# Altium footprint library SMD Magnetics.PcbLib: 48 footprints (part 3 of 3)
Each footprint in its own frame and in the unit in brackets; x right, y up, seen from the top. Pads: shape width x height; smd on the part's side, far side on the other; paste and mask are expansions set on the pad; w line width, h text height; cw(c..) or ccw(c..) is an arc to the next point about the centre after c.
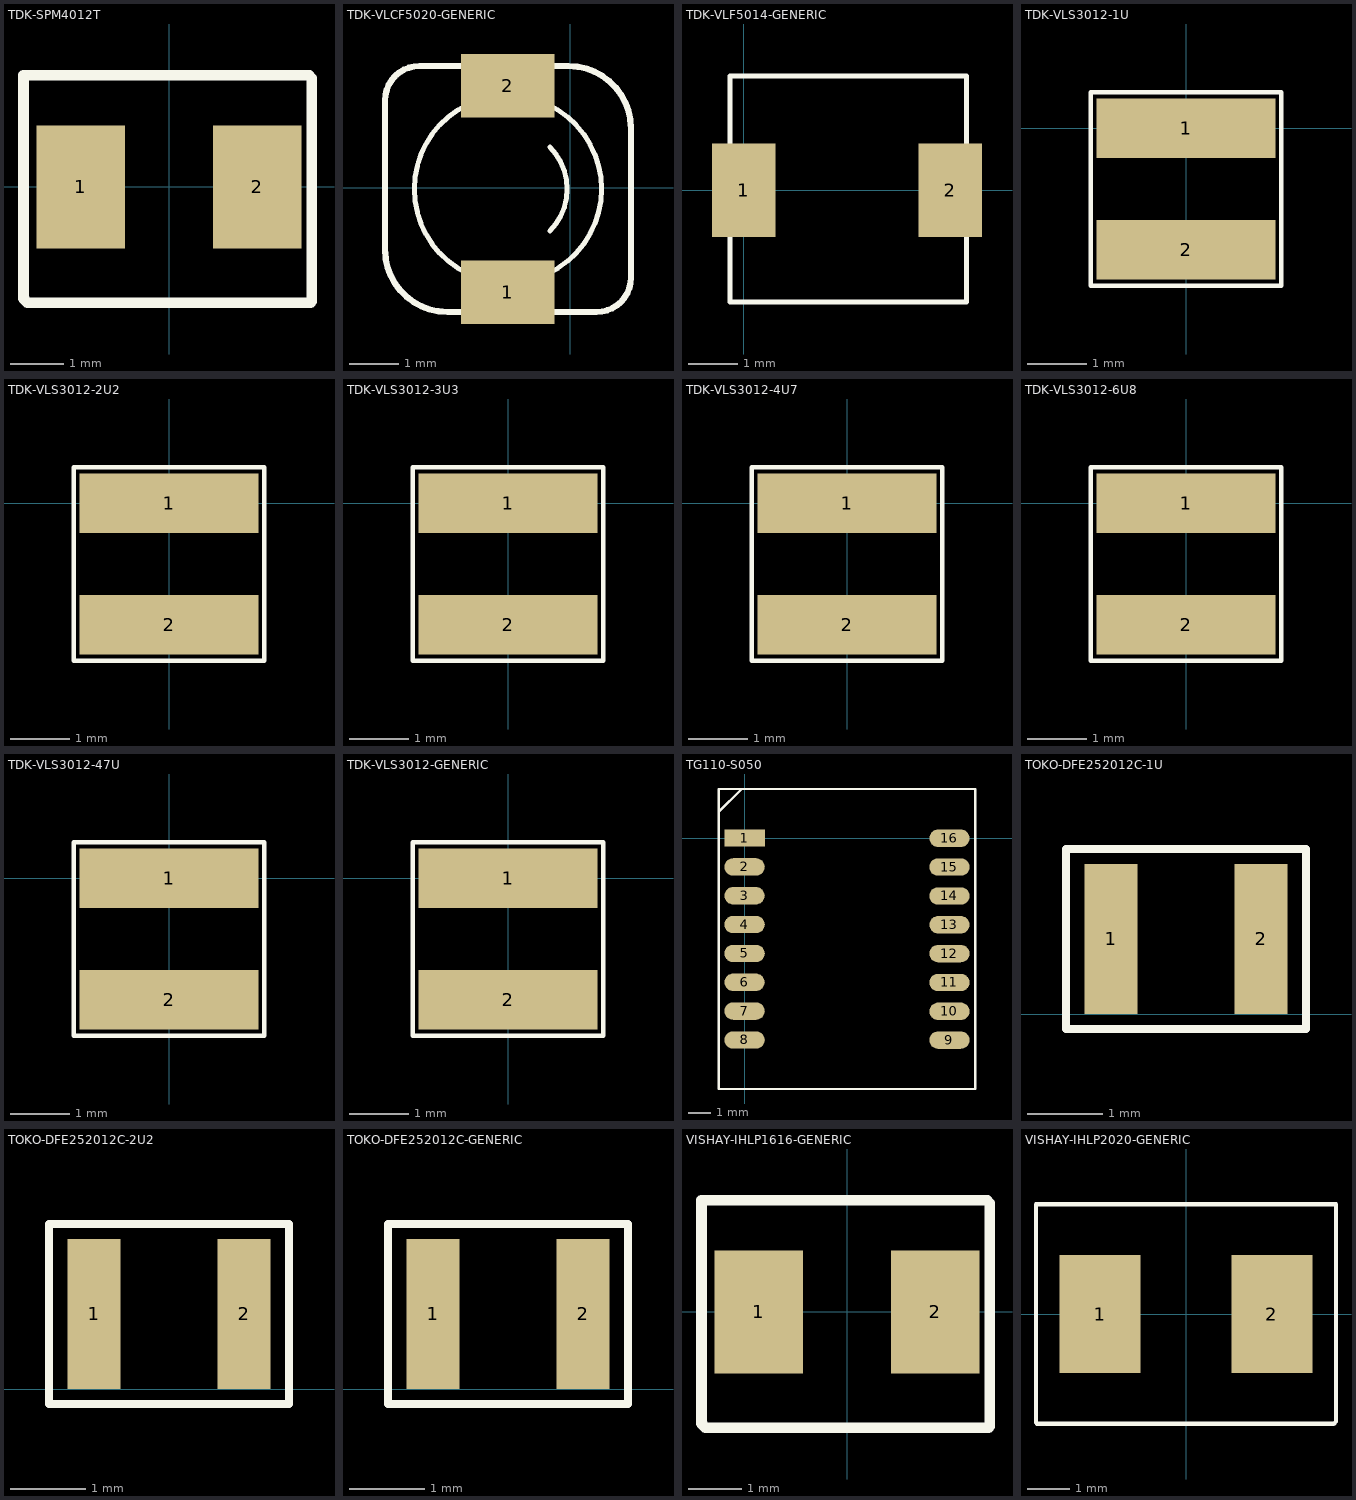
[diagram p2: the footprints below, top view; thin cyan lines are the x and y axes]

## TDK-SPM4012T [mm]
pads (2):
  rect 1.65x2.3 smd: 1(-1.651,0) 2(1.65,0)
Top Overlay:
  lines w0.198: -2.718,-2.083 -2.718,2.083 -2.54,2.083 2.616,2.083 2.667,2.032 2.667,-2.134 2.642,-2.159 -2.642,-2.159 -2.718,-2.083
3D body: height 1.07, standoff 0, extent -2.3,-1.2 -1.6,1.1
3D body: height 1.07, standoff 0, extent 1.6,-1.2 2.3,1.1
3D body: height 1.25, standoff 0.03, extent -2.2,-2.1 2.2,2

## TDK-VLCF5020-GENERIC [mm]
pads (2):
  rect 1.9x1.3 smd: 1(-1.275,-2.124) 2(-1.278,2.074)
Top Overlay:
  circle w0.102: c-1.272,-0.026 r1.903
  lines w0.102: -0.42,-0.878 ccw(c-1.272,-0.026) -0.42,0.825
  lines w0.127: -3.77,-1.255 ccw(c-2.5,-1.255) -2.5,-2.525 0.53,-2.525 ccw(c0.53,-1.825) 1.23,-1.825 1.23,1.205 ccw(c-0.04,1.205) -0.04,2.475 -3.07,2.475 ccw(c-3.07,1.775) -3.77,1.775 -3.77,-1.255
3D body: height 1.63, standoff 0.25, extent -3.133,-1.889 0.58,1.838
3D body: height 1.55, standoff 1.52, extent 0.314,-2.163 0.702,-1.774
3D body: height 0.64, standoff 0, extent -3.277,-2.07 0.787,2.032
3D body: height 1.52, standoff 0, extent -3.77,-2.538 1.243,2.488

## TDK-VLF5014-GENERIC [mm]
pads (2):
  rect 1.3x1.9 smd: 1(0,0) 2(4.199,0.003)
Top Overlay:
  lines w0.102: -0.276,-2.275 -0.276,2.325 4.524,2.325 4.524,-2.275 -0.276,-2.275
3D body: height 1, standoff 0, extent -0.276,-1.275 0.724,1.125
3D body: height 1, standoff 0, extent 3.524,-1.075 4.524,1.325
3D body: height 1.2, standoff 0, extent 1.024,-2.275 4.424,1.125
3D body: height 1.1, standoff 0, extent -0.176,-1.075 3.224,2.325
3D body: height 1.4, standoff 0, extent 0.339,-1.771 3.924,1.822
3D body: height 1.3, standoff 0, extent 0.239,-1.867 4.024,1.925
3D body: height 1.2, standoff 0, extent -0.152,0.813 3.226,2.311

## TDK-VLS3012-1U [mm]
pads (2):
  rect 3x1 smd: 1(0,0) 2(0,-2.032)
Top Overlay:
  lines w0.076: -1.6,-2.642 1.6,-2.642 1.6,0.61 -1.041,0.61 -1.6,0.61 -1.6,-2.642
3D body: height 1.3, standoff 1.27, extent 0.114,-1.206 0.305,-0.826
3D body: height 1.3, standoff 1.27, extent -0.146,-1.206 0.044,-0.826
3D body: height 0.13, standoff 0, extent -1.384,-2.299 1.435,-1.918
3D body: height 0.13, standoff 0, extent -1.384,-0.114 1.435,0.267
3D body: height 1.27, standoff 0, extent -0.851,-1.867 0.889,-0.191
3D body: height 1.27, standoff 0.89, extent -1.46,-2.286 1.46,0.254
3D body: height 0.38, standoff 0.03, extent -1.46,-2.286 1.46,0.254

## TDK-VLS3012-2U2 [mm]
pads (2):
  rect 3x1 smd: 1(0,0) 2(0,-2.032)
Top Overlay:
  lines w0.076: -1.6,-2.642 1.6,-2.642 1.6,0.61 -1.041,0.61 -1.6,0.61 -1.6,-2.642
3D body: height 1.3, standoff 1.27, extent -0.013,-1.194 0.178,-0.813
3D body: height 1.3, standoff 1.27, extent -0.279,-1.194 -0.089,-0.813
3D body: height 0.13, standoff 0, extent -1.384,-2.299 1.435,-1.918
3D body: height 0.13, standoff 0, extent -1.384,-0.114 1.435,0.267
3D body: height 1.27, standoff 0, extent -0.851,-1.867 0.889,-0.191
3D body: height 1.27, standoff 0.89, extent -1.46,-2.286 1.46,0.254
3D body: height 0.38, standoff 0.03, extent -1.46,-2.286 1.46,0.254
3D body: height 1.3, standoff 1.27, extent 0.267,-1.194 0.457,-0.813

## TDK-VLS3012-3U3 [mm]
pads (2):
  rect 3x1 smd: 1(0,0) 2(0,-2.032)
Top Overlay:
  lines w0.076: -1.6,-2.642 1.6,-2.642 1.6,0.61 -1.041,0.61 -1.6,0.61 -1.6,-2.642
3D body: height 1.3, standoff 1.27, extent 0.267,-1.194 0.457,-0.813
3D body: height 1.3, standoff 1.27, extent -0.013,-1.194 0.178,-0.813
3D body: height 0.13, standoff 0, extent -1.384,-2.299 1.435,-1.918
3D body: height 0.13, standoff 0, extent -1.384,-0.114 1.435,0.267
3D body: height 1.27, standoff 0, extent -0.851,-1.867 0.889,-0.191
3D body: height 1.27, standoff 0.89, extent -1.46,-2.286 1.46,0.254
3D body: height 0.38, standoff 0.03, extent -1.46,-2.286 1.46,0.254
3D body: height 1.3, standoff 1.27, extent -0.279,-1.194 -0.089,-0.813

## TDK-VLS3012-4U7 [mm]
pads (2):
  rect 3x1 smd: 1(0,0) 2(0,-2.032)
Top Overlay:
  lines w0.076: -1.6,-2.642 -1.6,0.61 -1.041,0.61 1.6,0.61 1.6,-2.642 -1.6,-2.642
3D body: height 1.3, standoff 1.27, extent 0.273,-1.194 0.464,-0.813
3D body: height 1.3, standoff 1.27, extent -0.279,-1.194 -0.089,-0.813
3D body: height 0.38, standoff 0.03, extent -1.46,-2.286 1.46,0.254
3D body: height 1.27, standoff 0.89, extent -1.46,-2.286 1.46,0.254
3D body: height 1.27, standoff 0, extent -0.851,-1.867 0.889,-0.191
3D body: height 0.13, standoff 0, extent -1.384,-0.114 1.435,0.267
3D body: height 0.13, standoff 0, extent -1.384,-2.299 1.435,-1.918
3D body: height 1.3, standoff 1.27, extent -0.013,-1.194 0.178,-0.813

## TDK-VLS3012-6U8 [mm]
pads (2):
  rect 3x1 smd: 1(0,0) 2(0,-2.032)
Top Overlay:
  lines w0.076: -1.6,-2.642 -1.6,0.61 -1.041,0.61 1.6,0.61 1.6,-2.642 -1.6,-2.642
3D body: height 0.38, standoff 0.03, extent -1.46,-2.286 1.46,0.254
3D body: height 1.27, standoff 0.89, extent -1.46,-2.286 1.46,0.254
3D body: height 1.27, standoff 0, extent -0.851,-1.867 0.889,-0.191
3D body: height 0.13, standoff 0, extent -1.384,-0.114 1.435,0.267
3D body: height 0.13, standoff 0, extent -1.384,-2.299 1.435,-1.918
3D body: height 1.3, standoff 1.27, extent -0.013,-1.194 0.178,-0.813
3D body: height 1.3, standoff 1.27, extent 0.273,-1.194 0.464,-0.813
3D body: height 1.3, standoff 1.27, extent -0.279,-1.194 -0.089,-0.813

## TDK-VLS3012-47U [mm]
pads (2):
  rect 3x1 smd: 1(0,0) 2(0,-2.032)
Top Overlay:
  lines w0.076: -1.6,-2.642 -1.6,0.61 -1.041,0.61 1.6,0.61 1.6,-2.642 -1.6,-2.642
3D body: height 1.3, standoff 1.27, extent -0.013,-1.187 0.178,-0.806
3D body: height 1.3, standoff 1.27, extent -0.279,-1.194 -0.089,-0.813
3D body: height 0.38, standoff 0.03, extent -1.46,-2.286 1.46,0.254
3D body: height 1.27, standoff 0.89, extent -1.46,-2.286 1.46,0.254
3D body: height 1.27, standoff 0, extent -0.851,-1.867 0.889,-0.191
3D body: height 0.13, standoff 0, extent -1.384,-0.114 1.435,0.267
3D body: height 0.13, standoff 0, extent -1.384,-2.299 1.435,-1.918
3D body: height 1.3, standoff 1.27, extent 0.254,-1.194 0.445,-0.813

## TDK-VLS3012-GENERIC [mm]
pads (2):
  rect 3x1 smd: 1(0,0) 2(0,-2.032)
Top Overlay:
  lines w0.076: -1.6,-2.642 1.6,-2.642 1.6,0.61 -1.041,0.61 -1.6,0.61 -1.6,-2.642
3D body: height 0.05, standoff 0.03, extent 1.194,-1.219 1.384,-0.838
3D body: height 0.05, standoff 0.03, extent 0.94,-1.219 1.13,-0.838
3D body: height 0.05, standoff 0.03, extent 0.178,-1.219 0.368,-0.838
3D body: height 0.05, standoff 0.03, extent 0.686,-1.219 0.876,-0.838
3D body: height 0.05, standoff 0.03, extent -0.584,-1.219 -0.394,-0.838
3D body: height 0.05, standoff 0.03, extent -0.838,-1.219 -0.648,-0.838
3D body: height 0.05, standoff 0.03, extent -1.092,-1.219 -0.902,-0.838
3D body: height 0.05, standoff 0.03, extent -1.346,-1.219 -1.156,-0.838
3D body: height 0.05, standoff 0.03, extent 0.432,-1.219 0.622,-0.838
3D body: height 0.05, standoff 0.03, extent -0.33,-1.219 -0.14,-0.838
3D body: height 0.05, standoff 0.03, extent -0.076,-1.219 0.114,-0.838
3D body: height 0.13, standoff 0, extent -1.384,-2.299 1.435,-1.918
3D body: height 0.13, standoff 0, extent -1.384,-0.114 1.435,0.267
3D body: height 1.27, standoff 0, extent -0.851,-1.867 0.889,-0.191
3D body: height 1.27, standoff 0.89, extent -1.46,-2.286 1.46,0.254
3D body: height 0.38, standoff 0.03, extent -1.46,-2.286 1.46,0.254

## TG110-S050 [mil]
pads (16):
  rect 70x30 smd: 1(0,0)
  oval 70x30 smd: 2(0,-50) 3(0,-100) 4(0,-150) 5(0,-200) 6(0,-250) 7(0,-300) 8(0,-350) 9(355.09,-350.34) 10(355.09,-300.34) 11(355.09,-250.34) 12(355.09,-200.34) 13(355.09,-150.34) 14(355.09,-100.34) 15(355.09,-50.34) 16(355.09,-0.34)
Top Overlay:
  lines w4: -45,45 -5,85 ; -45,-435 -45,85 395,85 400,85 400,-435 -45,-435

## TOKO-DFE252012C-1U [mm] "TOKO INDUCTOR DFE252012 SERIES"
pads (2):
  rect 0.7x2 smd mask+0.051: 1(-3.3,1) 2(-1.3,1)
Top Overlay:
  lines w0.102: -3.9,-0.2 -3.8,-0.2 -0.7,-0.2 -0.7,2.2 -3.8,2.2 -3.9,2.2 -3.9,-0.2
3D body: height 1.21, standoff 0, extent -1.45,0 -1.05,2
3D body: height 1.21, standoff 0, extent -3.55,0 -3.15,2
3D body: height 1.2, standoff 0, extent -3.45,0.1 -1.15,1.9
3D body: height 1.21, standoff 1.2, extent -2.521,0.794 -2.331,1.175
3D body: height 1.21, standoff 1.2, extent -2.261,0.794 -2.07,1.175

## TOKO-DFE252012C-2U2 [mm] "TOKO INDUCTOR DFE252012 SERIES"
pads (2):
  rect 0.7x2 smd mask+0.051: 1(-3.3,1) 2(-1.3,1)
Top Overlay:
  lines w0.102: -3.9,-0.2 -3.8,-0.2 -0.7,-0.2 -0.7,2.2 -3.8,2.2 -3.9,2.2 -3.9,-0.2
3D body: height 1.21, standoff 1.2, extent -2.388,0.906 -2.197,1.287
3D body: height 1.21, standoff 1.2, extent -2.654,0.906 -2.464,1.287
3D body: height 1.21, standoff 1.2, extent -2.108,0.906 -1.918,1.287
3D body: height 1.21, standoff 0, extent -1.45,0 -1.05,2
3D body: height 1.21, standoff 0, extent -3.55,0 -3.15,2
3D body: height 1.2, standoff 0, extent -3.45,0.1 -1.15,1.9

## TOKO-DFE252012C-GENERIC [mm] "TOKO INDUCTOR DFE252012 SERIES"
pads (2):
  rect 0.7x2 smd mask+0.051: 1(-3.3,1) 2(-1.3,1)
Top Overlay:
  lines w0.102: -3.9,-0.2 -3.9,2.2 -3.8,2.2 -0.7,2.2 -0.7,-0.2 -3.8,-0.2 -3.9,-0.2
3D body: height 1.2, standoff 0, extent -3.45,0.1 -1.15,1.9
3D body: height 1.21, standoff 0, extent -3.55,0 -3.15,2
3D body: height 1.21, standoff 0, extent -1.45,0 -1.05,2

## VISHAY-IHLP1616-GENERIC [mm]
pads (2):
  rect 1.65x2.3 smd: 1(-1.651,0) 2(1.65,0)
Top Overlay:
  lines w0.198: -2.718,-2.083 -2.642,-2.159 2.642,-2.159 2.667,-2.134 2.667,2.032 2.616,2.083 -2.54,2.083 -2.718,2.083 -2.718,-2.083
3D body: height 1.07, standoff 0, extent 2.032,-1.079 2.121,1.079
3D body: height 1.07, standoff 0, extent -2.159,-1.079 -2.07,1.079
3D body: height 2.06, standoff 2.03, extent -1.623,-1.585 -1.348,-1.31
3D body: height 2.06, standoff 2.03, extent -1.581,-0.445 -1.365,1.27
3D body: height 2.03, standoff 0.03, extent -2.127,-2.152 2.076,2.051

## VISHAY-IHLP2020-GENERIC [mm] "VISHAY IHLP2020 INDUCTOR GENERIC PACKAGE"
pads (2):
  rect 1.915x2.8 smd: 1(-2.037,0) 2(2.037,0)
Top Overlay:
  lines w0.102: -3.556,-2.575 -3.531,-2.6 3.505,-2.6 3.556,-2.549 3.556,2.6 -3.556,2.6 -3.556,-2.575
3D body: height 1.07, standoff 0, extent 2.73,-1.016 2.819,1.143
3D body: height 1.07, standoff 0, extent -2.781,-1.016 -2.692,1.143
3D body: height 2.82, standoff 2.03, extent -2.246,-1.522 -1.971,-1.247
3D body: height 2.82, standoff 2.03, extent -2.203,-0.381 -1.988,1.333
3D body: height 2.79, standoff 0.03, extent -2.749,-2.533 2.789,2.535